# Altium footprint library CR0603 Chip Resistor.PcbLib: 1 footprints
Each footprint in its own frame and in the unit in brackets; x right, y up, seen from the top. Pads: shape width x height; smd on the part's side, far side on the other; paste and mask are expansions set on the pad; w line width, h text height; cw(c..) or ccw(c..) is an arc to the next point about the centre after c.
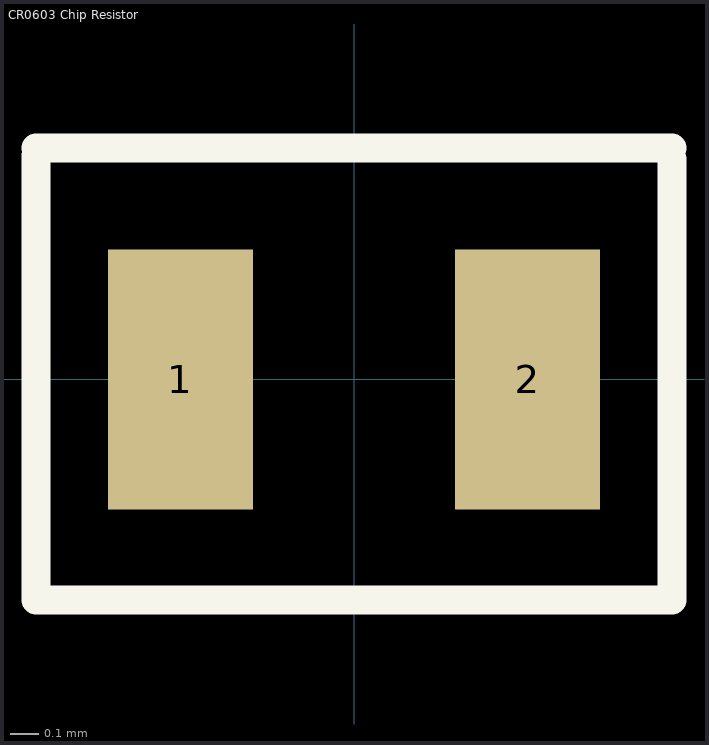
[diagram p0: the footprint, top view; thin cyan lines are the x and y axes]

## CR0603 Chip Resistor [mm]
height 0.55
pads (2):
  rect 0.5x0.9 smd: 1(-0.6,0) 2(0.6,0)
Top Overlay:
  lines w0.1: -1.1,-0.762 1.1,-0.762 1.1,0.762 ; -1.1,-0.75 -1.1,0.774 ; -1.1,0.8 1.1,0.8